# Altium footprint library PowerMonitoring.PcbLib: 20 footprints (part 1 of 2)
Each footprint in its own frame and in the unit in brackets; x right, y up, seen from the top. Pads: shape width x height; smd on the part's side, far side on the other; paste and mask are expansions set on the pad; w line width, h text height; cw(c..) or ccw(c..) is an arc to the next point about the centre after c.
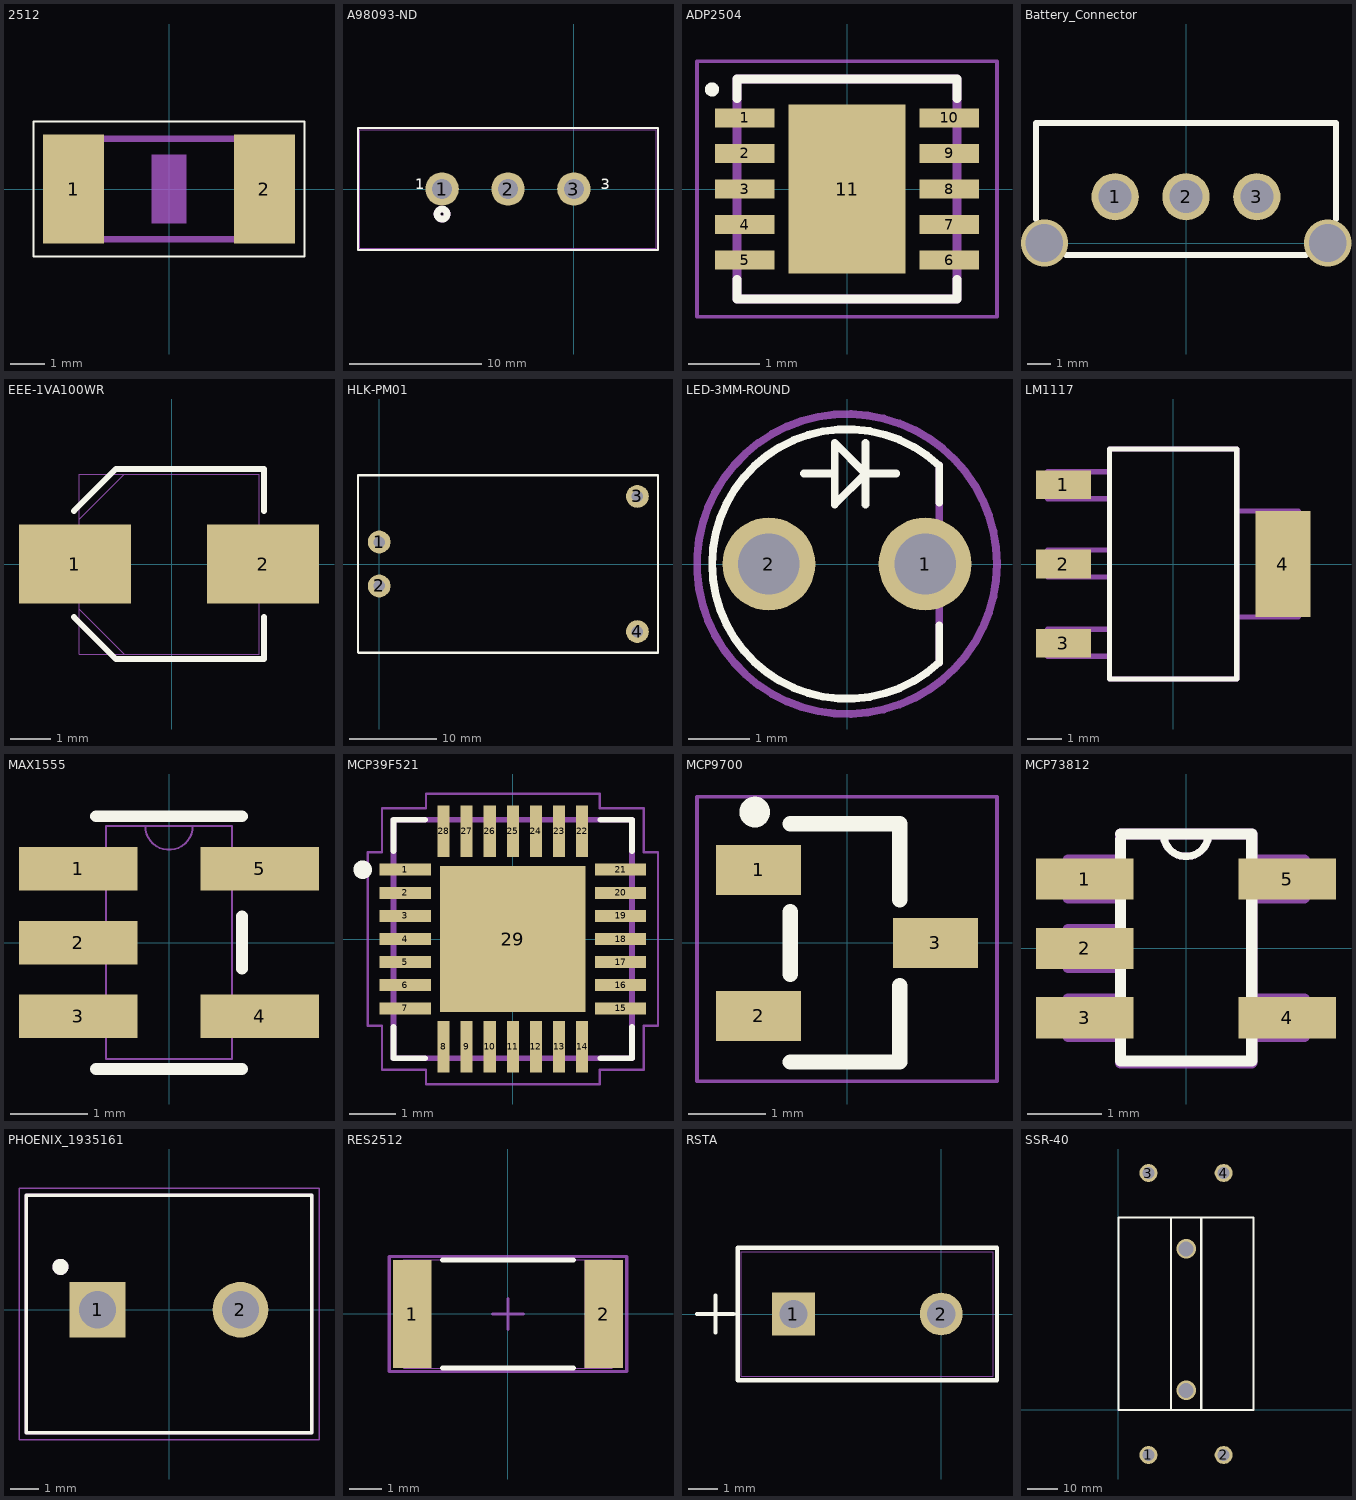
[diagram p0: the footprints below, top view; thin cyan lines are the x and y axes]

## 2512 [mm]
pads (2):
  rect 1.8x3.2 smd: 1(-2.8,0) 2(2.8,0)
Top Overlay:
  lines w0.051: -3.973,-1.983 3.973,-1.983 3.973,1.983 -3.973,1.983 -3.973,-1.983
Mechanical 1:
  region: -0.501,1 0.5,1 0.5,-1.001 -0.501,-1.001
  lines w0.203: -2.362,-1.473 2.387,-1.473 ; -2.362,1.473 2.387,1.473
3D body "RES2512.stp": height 0.55, standoff 0, extent -3.15,-1.55 3.15,1.55

## A98093-ND [mil] "CONN_282844-3"
pads (3):
  round 100 hole 60 mask-1000: 1(-393.7,0) 2(-196.85,0) 3(0,0)
Top Overlay:
  lines w6: -644.85,-182 -644.85,182 251.15,182 251.15,-182 -644.85,-182
  lines w20: -395.25,-60.08 ccw(c-393.7,-75) -378.7,-75 ccw(c-393.7,-75) -392.15,-60.08
  text "3" at 80,0 h31.25
  text "3" at 80,0 h31.25
  text "1" at -473.7,0 h31.25
  text "1" at -473.7,0 h31.25
Bottom Overlay:
  circle w20: c-393.7,-75 r15
  text "3" at 80,0 h31.25
  text "3" at 80,0 h31.25
  text "1" at -473.7,0 h31.25
  text "1" at -473.7,0 h31.25
Top Solder:
  region: 0,40.35 -10.44,38.97 -20.17,34.94 -28.53,28.53 -34.94,20.17 -38.97,10.44 -40.35,0 -38.97,-10.44 -34.94,-20.17 -28.53,-28.53 -20.17,-34.94 -10.44,-38.97 0,-40.35 10.44,-38.97 20.17,-34.94 28.53,-28.53 34.94,-20.17 38.97,-10.44 40.35,0 38.97,10.44 34.94,20.17 28.53,28.53 20.17,34.94 10.44,38.97
  region: -196.85,40.35 -207.29,38.97 -217.02,34.94 -225.38,28.53 -231.79,20.17 -235.82,10.44 -237.2,0 -235.82,-10.44 -231.79,-20.17 -225.38,-28.53 -217.02,-34.94 -207.29,-38.97 -196.85,-40.35 -186.41,-38.97 -176.68,-34.94 -168.32,-28.53 -161.91,-20.17 -157.88,-10.44 -156.51,0 -157.88,10.44 -161.91,20.17 -168.32,28.53 -176.68,34.94 -186.41,38.97
  region: -393.7,40.35 -404.14,38.97 -413.87,34.94 -422.23,28.53 -428.64,20.17 -432.67,10.44 -434.05,0 -432.67,-10.44 -428.64,-20.17 -422.23,-28.53 -413.87,-34.94 -404.14,-38.97 -393.7,-40.35 -383.26,-38.97 -373.53,-34.94 -365.17,-28.53 -358.76,-20.17 -354.73,-10.44 -353.36,0 -354.73,10.44 -358.76,20.17 -365.17,28.53 -373.53,34.94 -383.26,38.97
Bottom Solder:
  region: 0,40.35 -10.44,38.97 -20.17,34.94 -28.53,28.53 -34.94,20.17 -38.97,10.44 -40.35,0 -38.97,-10.44 -34.94,-20.17 -28.53,-28.53 -20.17,-34.94 -10.44,-38.97 0,-40.35 10.44,-38.97 20.17,-34.94 28.53,-28.53 34.94,-20.17 38.97,-10.44 40.35,0 38.97,10.44 34.94,20.17 28.53,28.53 20.17,34.94 10.44,38.97
  region: -196.85,40.35 -207.29,38.97 -217.02,34.94 -225.38,28.53 -231.79,20.17 -235.82,10.44 -237.2,0 -235.82,-10.44 -231.79,-20.17 -225.38,-28.53 -217.02,-34.94 -207.29,-38.97 -196.85,-40.35 -186.41,-38.97 -176.68,-34.94 -168.32,-28.53 -161.91,-20.17 -157.88,-10.44 -156.51,0 -157.88,10.44 -161.91,20.17 -168.32,28.53 -176.68,34.94 -186.41,38.97
  region: -393.7,40.35 -404.14,38.97 -413.87,34.94 -422.23,28.53 -428.64,20.17 -432.67,10.44 -434.05,0 -432.67,-10.44 -428.64,-20.17 -422.23,-28.53 -413.87,-34.94 -404.14,-38.97 -393.7,-40.35 -383.26,-38.97 -373.53,-34.94 -365.17,-28.53 -358.76,-20.17 -354.73,-10.44 -353.36,0 -354.73,10.44 -358.76,20.17 -365.17,28.53 -373.53,34.94 -383.26,38.97
Mechanical 1:
  circle w20: c-393.7,-75 r15
  lines w1: -639.85,-177 -639.85,177 246.15,177 246.15,-177 -639.85,-177
  text "3" at 80,0 h31.25
  text "3" at 80,0 h31.25
  text "1" at -473.7,0 h31.25
  text "1" at -473.7,0 h31.25

## ADP2504 [mm] "SON50P300X300X80-11N"
pads (11):
  rect 0.84x0.27 smd: 1(-1.44,1) 2(-1.44,0.5) 3(-1.44,0) 4(-1.44,-0.5) 5(-1.44,-1) 6(1.44,-1) 7(1.44,-0.5) 8(1.44,0) 9(1.44,0.5) 10(1.44,1)
  rect 1.64x2.38 smd: 11(0,0)
Top Overlay:
  circle w0.1: c-1.9,1.4 r0.05
  lines w0.127: -1.55,-1.27 -1.55,-1.55 1.55,-1.55 1.55,-1.27 ; -1.55,1.27 -1.55,1.55 1.55,1.55 1.55,1.27
Top Paste:
  region: -0.591,0.753 0.519,0.753 0.519,-0.858 -0.591,-0.858
Mechanical 1:
  lines w0.127: -1.55,-1.55 1.55,-1.55 1.55,1.55 -1.55,1.55 -1.55,-1.55
Mechanical 4:
  lines w0.05: -2.11,-1.8 2.11,-1.8 2.11,1.8 -2.11,1.8 -2.11,-1.8
3D body "CP_10_9-M.stp": height 0.79, standoff 0, extent -1.549,-1.549 1.549,1.549

## Battery_Connector [mm] "Battery_Connector"
pads (3):
  round 2 hole 1.4: 1(-3,1.96) 2(0,1.96) 3(3,1.96)
via 6,0 diameter 2 hole 1.6
via -6,0 diameter 2 hole 1.6
Top Overlay:
  lines w0.254: -6.35,1.016 -6.35,5.08 6.35,5.08 6.35,1.016 ; -5.08,-0.508 5.08,-0.508
3D body "436500315.stp": height 9.95, standoff -3.13, extent -6.325,-0.51 6.325,5.095

## EEE-1VA100WR [mil] "CAP_LM1117"
pads (2):
  rect 110x78 smd: 1(-95,0) 2(90,0)
Top Overlay:
  lines w6: -96,-52.1 -54.6,-93.5 91,-93.5 91,-52.1 ; -96,52.1 -54.6,93.5 91,93.5 91,52.1
Mechanical 1:
  lines w1: -91,-44.25 -46.75,-88.5 ; -91,44.25 -46.75,88.5 ; -91,-88.5 86,-88.5 86,88.5 -91,88.5 -91,-88.5
3D body "CAP_EEE_B-M.stp": height 219.02, standoff 0, extent -108.49,-88.49 108.51,88.51

## HLK-PM01 [mm] "5V/3W POWER SUPPLY"
pads (4):
  round 2.6 hole 1.3: 1(0,2.5) 2(0,-2.5) 3(29.4,7.7) 4(29.4,-7.7)
Top Overlay:
  lines w0.254: -2.413,-10.033 -2.413,-0.254 -2.413,10.1 31.75,10.1 31.75,-10.1 -2.346,-10.1 -2.413,-10.033
3D body: height 0.25, standoff 0, extent -2.159,9.906 -2.159,9.906
3D body: height 0.25, standoff 0, extent -2.159,9.906 -2.159,9.906
3D body "User Library-HLK-PM01.step": height 15.12, standoff -4.98, extent -2.268,-10.167 31.732,10.033

## LED-3MM-ROUND [mm]
pads (2):
  round 1.508 hole 1: 1(1.27,0) 2(-1.27,0)
Top Overlay:
  lines w0.127: -0.7,1.47 -0.2,1.47 ; 0.3,0.97 0.3,1.47 ; 0.3,1.97 0.3,1.47 ; 0.8,1.47 0.3,1.47 ; 1.496,-1.604 cw(c0,0) 1.496,1.604 ; 1.5,-1.6 1.5,-1 ; 1.5,1 1.5,1.6 ; -0.2,1.47 -0.2,0.97 0.3,1.47 ; -0.2,1.47 -0.2,1.97 0.3,1.47
Mechanical 1:
  lines w0.127: 1.5,-1.6 1.5,1.6
Mechanical 4:
  circle w0.127: c0,0 r2.44
3D body "LED 3 mm.step": height 6.05, standoff -11, extent -2,-1.998 1.5,1.998

## LM1117 [mil] "SOT230P696X180-4N"
pads (4):
  rect 63x33 smd: 1(-126,91) 2(-126,0) 3(-126,-91)
  rect 63x122 smd: 4(126,0)
Top Overlay:
  lines w6: -73,-132 -73,132 73,132 73,-132 -73,-132
Mechanical 1:
  lines w6: -144,-106 -73,-106 -73,-75 -144,-75 -144,-106 ; -144,-15 -73,-15 -73,16 -144,16 -144,-15 ; -144,75 -73,75 -73,106 -144,106 -144,75 ; -73,-132 -73,132 73,132 73,-132 -73,-132 ; 73,-61 144,-61 144,61 73,61 73,-61
3D body "LM1117.STEP": height 66.93, standoff 0.01, extent -144.06,-132 144.06,131.78

## MAX1555 [mil]
pads (5):
  rect 60x22 smd: 1(-46,37.4) 2(-46,0) 3(-46,-37.4) 4(46,-37.4) 5(46,37.4)
Top Overlay:
  lines w6: -37,-64 37,-64 ; -37,64 37,64 ; 37,-13.3 37,13.3
Mechanical 1:
  lines w1: -12,59 ccw(c0,59) 12,59 ; -54,-46.4 -32,-46.4 -32,-28.4 -54,-28.4 -54,-46.4 ; -54,-9 -32,-9 -32,9 -54,9 -54,-9 ; -54,28.4 -32,28.4 -32,46.4 -54,46.4 -54,28.4 ; -32,-59 -32,59 32,59 32,-59 -32,-59 ; 32,-46.4 54,-46.4 54,-28.4 32,-28.4 32,-46.4 ; 32,28.4 54,28.4 54,46.4 32,46.4 32,28.4
3D body "NA__NA__MAXIM INTEGRATED__NA__21-0114C-L--3DModel-Eagle-2522.STEP": height 43.1, standoff 0, extent -53.99,-58.99 54.01,59

## MCP39F521 [mm] "QFN50P500X500X100-29N"
pads (29):
  rect 1.11x0.26 smd: 1(-2.33,1.5) 2(-2.33,1) 3(-2.33,0.5) 4(-2.33,0) 5(-2.33,-0.5) 6(-2.33,-1) 7(-2.33,-1.5) 15(2.33,-1.5) 16(2.33,-1) 17(2.33,-0.5) 18(2.33,0) 19(2.33,0.5) 20(2.33,1) 21(2.33,1.5)
  rect 0.26x1.11 smd: 8(-1.5,-2.33) 9(-1,-2.33) 10(-0.5,-2.33) 11(0,-2.33) 12(0.5,-2.33) 13(1,-2.33) 14(1.5,-2.33) 22(1.5,2.33) 23(1,2.33) 24(0.5,2.33) 25(0,2.33) 26(-0.5,2.33) 27(-1,2.33) 28(-1.5,2.33)
  rect 3.15x3.15 smd: 29(0,0)
Top Overlay:
  circle w0.2: c-3.25,1.5 r0.1
  lines w0.127: -2.58,-1.9 -2.58,-2.58 -1.9,-2.58 ; -2.58,1.9 -2.58,2.58 -1.9,2.58 ; 1.9,-2.58 2.58,-2.58 2.58,-1.9 ; 1.9,2.58 2.58,2.58 2.58,1.9
Top Paste:
  region: -1.002,1 1,1 1,-1.002 -1.002,-1.002
Mechanical 1:
  lines w0.127: -2.58,-2.58 -2.58,2.58 2.58,2.58 2.58,-2.58 -2.58,-2.58
Mechanical 4:
  lines w0.05: -3.14,-1.88 -2.83,-1.88 -2.83,-2.83 -1.88,-2.83 -1.88,-3.14 1.88,-3.14 1.88,-2.83 2.83,-2.83 2.83,-1.88 3.14,-1.88 3.14,1.88 2.83,1.88 2.83,2.83 1.88,2.83 1.88,3.14 -1.88,3.14 -1.88,2.83 -2.83,2.83 -2.83,1.88 -3.14,1.88 -3.14,-1.88
3D body: height 0.9, standoff 0.02, extent -2.58,-2.58 2.58,2.58

## MCP9700 [mm] "SOT95P237X112-3N"
pads (3):
  rect 1.1x0.65 smd: 1(-1.15,0.95) 2(-1.15,-0.95) 3(1.15,0)
Top Overlay:
  circle w0.2: c-1.2,1.7 r0.1
  lines w0.2: -0.737,-1.549 0.686,-1.549 0.686,-0.559 ; -0.737,-0.406 -0.737,0.406 ; -0.737,1.549 0.686,1.549 0.686,0.559
Mechanical 4:
  lines w0.05: -1.95,-1.8 -1.95,1.9 1.95,1.9 1.95,-1.8 -1.95,-1.8
3D body "Package, SOT-23.STEP": height 1, standoff 0, extent -1.3,-1.45 1.3,1.45

## MCP73812 [mil] "SOT95P270X145-5N"
pads (5):
  rect 52x22 smd: 1(-54,37) 2(-54,0) 3(-54,-37) 4(54,-37) 5(54,37)
Top Overlay:
  lines w3.94: -12,61 ccw(c0,61) 12,61
  lines w6: -35,58 -35,-60 35,-60 35,61 12,61 -12,61 -35,61
Mechanical 1:
  lines w3.94: -12,61 ccw(c0,61) 12,61
  lines w6: -35,-47 -35,-61 35,-61 35,-47 ; -35,-47 -35,-27 ; -35,-47 -63,-47 -63,-27 -35,-27 ; -35,-27 -35,-10 ; -35,-10 -35,10 ; -35,-10 -63,-10 -63,10 -35,10 ; -35,10 -35,27 ; -35,27 -35,47 ; -35,27 -63,27 -63,47 -35,47 ; -35,47 -35,61 -12,61 12,61 35,61 35,47 ; 35,-47 35,-27 ; 35,-47 63,-47 63,-27 35,-27 ; 35,-27 35,27 ; 35,27 35,47 ; 35,27 63,27 63,47 35,47

## PHOENIX_1935161 [mm]
pads (2):
  rect 1.95x1.95 hole 1.3: 1(-2.5,0)
  round 1.95 hole 1.3: 2(2.5,0)
Top Overlay:
  circle w0.28: c-3.8,1.5 r0.14
  lines w0.127: -5,-4.3 5,-4.3 5,4 -5,4 -5,-4.3
Mechanical 1:
  circle w0.28: c-3.8,1.5 r0.14
  lines w0.127: -5,-4.3 -5,4 5,4 5,-4.3 -5,-4.3
Mechanical 4:
  lines w0.05: -5.25,-4.55 5.25,-4.55 5.25,4.25 -5.25,4.25 -5.25,-4.55
3D body "TERMINAL_BLOCK_2POS.stp": height 15.6, standoff -4.35, extent -5,-4.25 5,4.25

## RES2512 [mil]
pads (2):
  rect 47x132 smd: 1(-117,0) 2(117,0)
Top Overlay:
  lines w6: -80,-66 80,-66 ; -80,66 80,66
Mechanical 1:
  lines w0: -94,-66 94,-66 ; -94,-66 -127,-66 -127,66 -94,66 ; -94,-66 -94,66 ; -94,66 94,66 ; 94,-66 127,-66 127,66 94,66 ; 94,-66 94,66
Mechanical 15:
  lines w3.94: -18.7,0 18.7,0 ; 0,-18.7 0,18.7 ; -145,-70 -145,70 145,70 145,-70 -145,-70
3D body "RES2512.stp": height 21.65, standoff 0, extent -124.01,-61.02 124.02,61.03

## RSTA [mil]
pads (2):
  rect 58x58 hole 38 mask-1000: 1(-200,0)
  round 58 hole 38 mask-1000: 2(0,0)
Top Overlay:
  lines w6: -330.5,0 -280.5,0 ; -305.5,-25 -305.5,25 ; -275.5,-89.5 75.5,-89.5 75.5,89.5 -275.5,89.5 -275.5,-89.5
Top Paste:
  region: -229,-29 -171,-29 -171,29 -229,29
  region: 0,-29.25 7.57,-28.25 14.63,-25.33 20.68,-20.68 25.33,-14.63 28.25,-7.57 29.25,0 28.25,7.57 25.33,14.63 20.68,20.68 14.63,25.33 7.57,28.25 0,29.25 -7.57,28.25 -14.63,25.33 -20.68,20.68 -25.33,14.63 -28.25,7.57 -29.25,0 -28.25,-7.57 -25.33,-14.63 -20.68,-20.68 -14.63,-25.33 -7.57,-28.25
Top Solder:
  region: -229,-29 -171,-29 -171,29 -229,29
  region: 0,-29.25 7.57,-28.25 14.63,-25.33 20.68,-20.68 25.33,-14.63 28.25,-7.57 29.25,0 28.25,7.57 25.33,14.63 20.68,20.68 14.63,25.33 7.57,28.25 0,29.25 -7.57,28.25 -14.63,25.33 -20.68,20.68 -25.33,14.63 -28.25,7.57 -29.25,0 -28.25,-7.57 -25.33,-14.63 -20.68,-20.68 -14.63,-25.33 -7.57,-28.25
Bottom Solder:
  region: -229,-29 -171,-29 -171,29 -229,29
  region: 0,-29.25 7.57,-28.25 14.63,-25.33 20.68,-20.68 25.33,-14.63 28.25,-7.57 29.25,0 28.25,7.57 25.33,14.63 20.68,20.68 14.63,25.33 7.57,28.25 0,29.25 -7.57,28.25 -14.63,25.33 -20.68,20.68 -25.33,14.63 -28.25,7.57 -29.25,0 -28.25,-7.57 -25.33,-14.63 -20.68,-20.68 -14.63,-25.33 -7.57,-28.25
Mechanical 1:
  lines w1: -330.5,0 -280.5,0 ; -305.5,-25 -305.5,25 ; -270.5,-84.5 70.5,-84.5 70.5,84.5 -270.5,84.5 -270.5,-84.5
3D body "RSTA.stp": height 319.02, standoff -184.02, extent -270.5,-84.48 70.52,84.5

## SSR-40 [mm] "SSR-40"
pads (4):
  round 6 hole 4: 1(10,-15) 2(35,-15) 3(10,78.754) 4(35,78.754)
via 22.5,6.5 diameter 6.5 hole 5
via 22.5,53.5 diameter 6.5 hole 5
Top Overlay:
  lines w0.7: 17.5,0 17.5,64.008 ; 27.559,0 27.559,64.008 ; 0,0 0,64.008 44.958,64.008 44.958,0 0,0
3D body "Main Relay Body.STEP": height 22.5, standoff 0, extent 0,0 45,64